# EAGLE library part EXB* (library diode-20CJQ030)
Panasonic EXBA,EXBD,EXBE Chip Resistor Networks
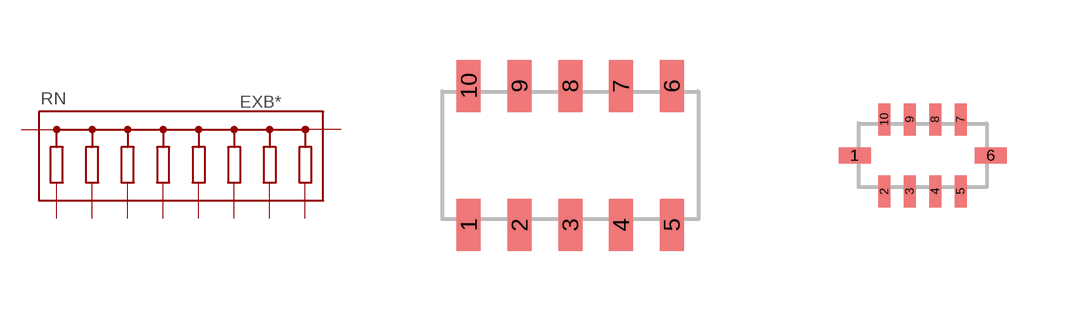
[diagram p123: symbol with the pads of EXBA; footprints EXBA, EXBD]

Designator prefix RN

## EXBA  [EXBA]
1  POL  pas
2  1  pas
3  2  pas
4  3  pas
5  4  pas
6  POL  pas
7  5  pas
8  6  pas
9  7  pas
10  8  pas

## EXBD  [EXBD]
Pads as for EXBA

## EXBE  [EXBE]
Pads as for EXBA

## Footprint EXBA (pad centres in mm)
smd 0.6 x 1.3: 1 -2.54,-1.74; 2 -1.27,-1.74; 3 0,-1.74; 4 1.27,-1.74; 5 2.54,-1.74; 6 2.54,1.74; 7 1.27,1.74; 8 0,1.74; 9 -1.27,1.74; 10 -2.54,1.74

## Footprint EXBD (pad centres in mm)
smd 0.8 x 0.4: 1 -1.7,0; 6 1.7,0
smd 0.3 x 0.8: 2 -0.953,-0.902; 3 -0.318,-0.902; 4 0.318,-0.902; 5 0.953,-0.902; 7 0.953,0.902; 8 0.318,0.902; 9 -0.318,0.902; 10 -0.953,0.902

## Footprint EXBE (pad centres in mm)
smd 1 x 0.5: 1 -2.2,0; 6 2.2,0
smd 0.4 x 1: 2 -1.2,-1.2; 3 -0.4,-1.2; 4 0.4,-1.2; 5 1.2,-1.2; 7 1.2,1.2; 8 0.4,1.2; 9 -0.4,1.2; 10 -1.2,1.2